# EAGLE library part CP82C54Z (library Intersil_By_element14_Batch_1)
CMOS Programmable Intervel Timer
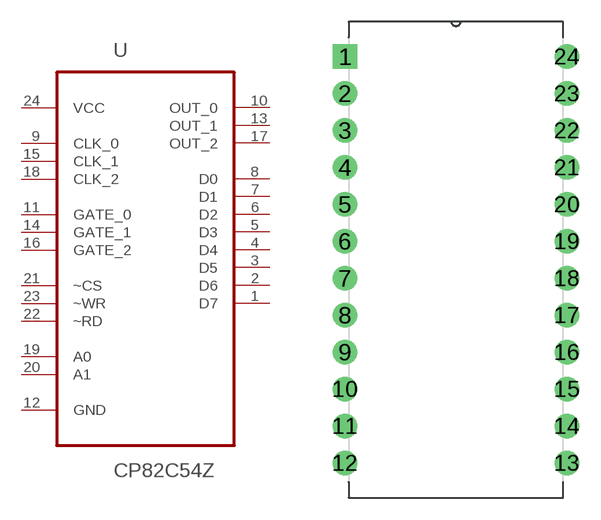
[diagram p21: symbol with the pads of DIP254P1524X635-24; footprint DIP254P1524X635-24]

Designator prefix U

## CP82C54Z (MPN: CP82C54Z; OC_FARNELL: 1018175; OC_NEWARK: 57K3037; PACKAGE: DIP-24; SUPPLIER: INTERSIL)  [DIP254P1524X635-24]
1  D7
2  D6
3  D5
4  D4
5  D3
6  D2
7  D1
8  D0
9  CLK_0  in
10  OUT_0  out
11  GATE_0  in
12  GND  pas
13  OUT_1  out
14  GATE_1  in
15  CLK_1  in
16  GATE_2  in
17  OUT_2  out
18  CLK_2  in
19  A0  in
20  A1  in
21  ~CS  in
22  ~RD  in
23  ~WR  in
24  VCC  pwr

## Footprint DIP254P1524X635-24 (pad centres in mm)
drill 1.118 square: 1 -15.24,27.94
drill 1.118: 2 -15.24,25.4; 3 -15.24,22.86; 4 -15.24,20.32; 5 -15.24,17.78; 6 -15.24,15.24; 7 -15.24,12.7; 8 -15.24,10.16; 9 -15.24,7.62; 10 -15.24,5.08; 11 -15.24,2.54; 12 -15.24,0; 13 0,0; 14 0,2.54; 15 0,5.08; 16 0,7.62; 17 0,10.16; 18 0,12.7; 19 0,15.24; 20 0,17.78; 21 0,20.32; 22 0,22.86; 23 0,25.4; 24 0,27.94